# EAGLE library part RF-BM-S02 (library GEN_WIP_MASTERLIB)
https://www.futurashop.it/image/catalog/data/Download/RF-BM-S02.pdf
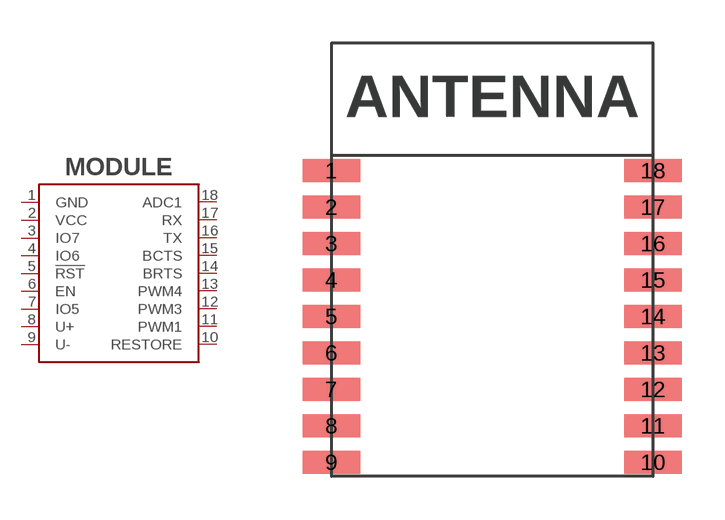
[diagram p6: symbol with the pads of RF-BM-S02; footprint RF-BM-S02]

Designator prefix MODULE

## RF-BM-S02  [RF-BM-S02]
1  GND
2  VCC
3  IO7
4  IO6
5  !RST
6  EN
7  IO5
8  U+
9  U-
10  RESTORE
11  PWM1
12  PWM3
13  PWM4
14  BRTS
15  BCTS
16  TX
17  RX
18  ADC1

## Footprint RF-BM-S02 (pad centres in mm)
https://www.futurashop.it/image/catalog/data/Download/RF-BM-S02.pdf
smd 2 x 0.8: 1 -5.6,3.11; 2 -5.6,1.84; 3 -5.6,0.57; 4 -5.6,-0.7; 5 -5.6,-1.97; 6 -5.6,-3.24; 7 -5.6,-4.51; 8 -5.6,-5.78; 9 -5.6,-7.05; 10 5.6,-7.05; 11 5.6,-5.78; 12 5.6,-4.51; 13 5.6,-3.24; 14 5.6,-1.97; 15 5.6,-0.7; 16 5.6,0.57; 17 5.6,1.84; 18 5.6,3.11